# Altium footprint library Sinalização_Official.PcbLib: 12 footprints
Each footprint in its own frame and in the unit in brackets; x right, y up, seen from the top. Pads: shape width x height; smd on the part's side, far side on the other; paste and mask are expansions set on the pad; w line width, h text height; cw(c..) or ccw(c..) is an arc to the next point about the centre after c.
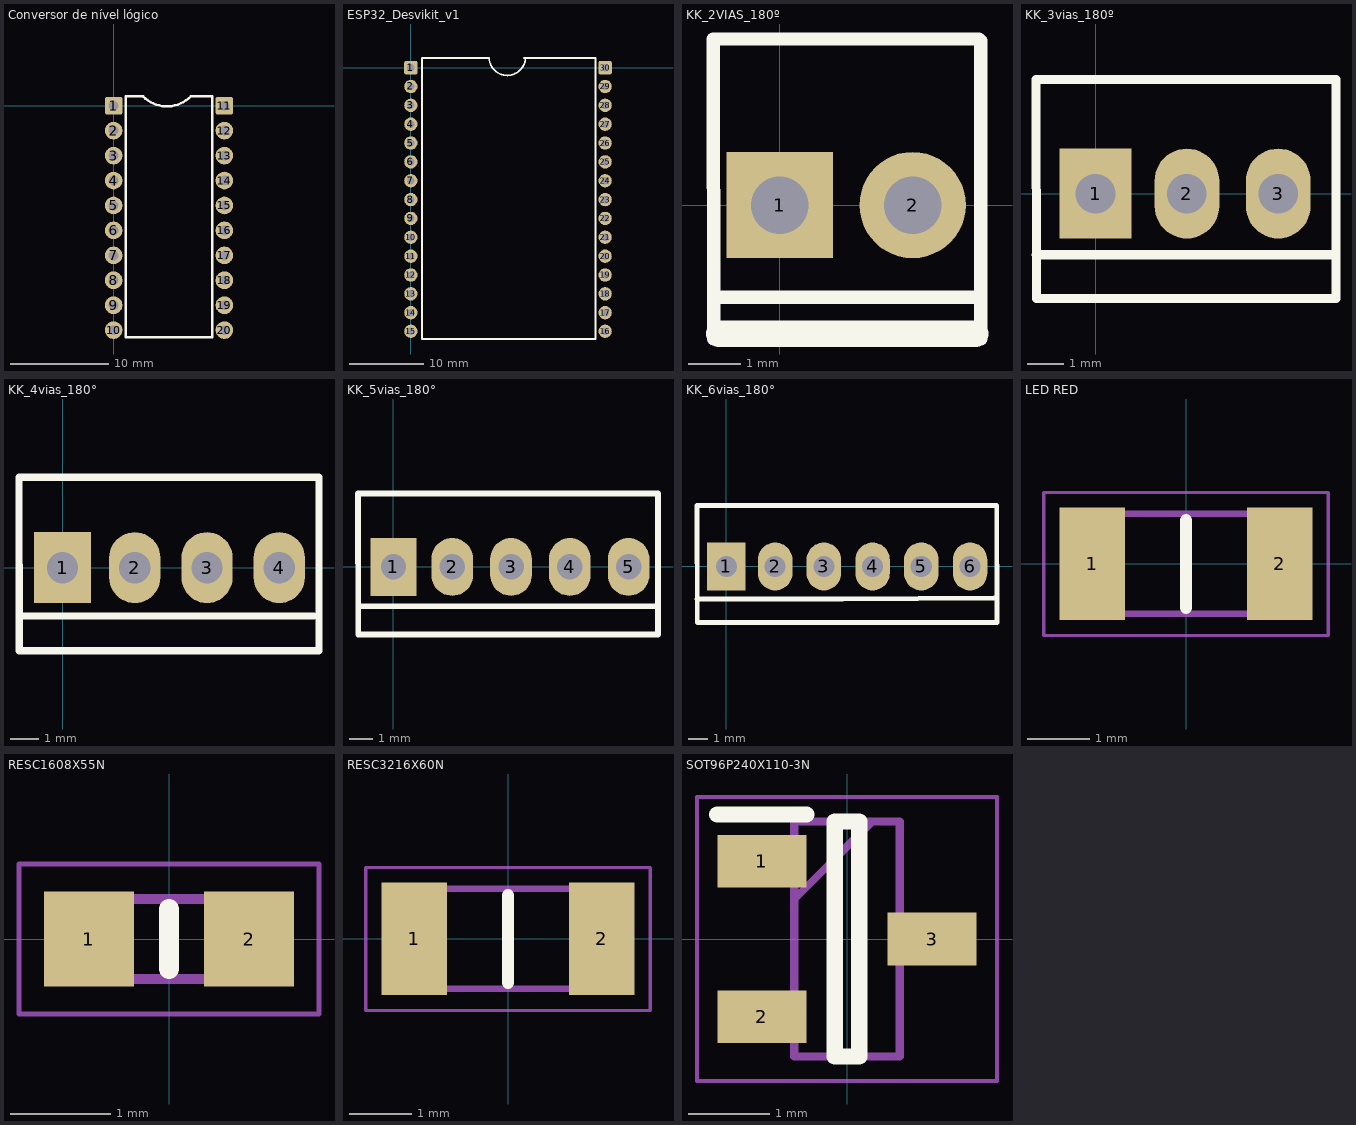
[diagram p0: the footprints below, top view; thin cyan lines are the x and y axes]

## Conversor de nível lógico [mm] "3V3 para 5V"
pads (20):
  rrect25% 1.8x1.8 hole 1: 1(-0.025,0) 11(11.25,0)
  round 1.8 hole 1: 2(-0.025,-2.54) 3(-0.025,-5.08) 4(-0.025,-7.62) 5(-0.025,-10.16) 6(-0.025,-12.7) 7(-0.025,-15.24) 8(-0.025,-17.78) 9(-0.025,-20.32) 10(-0.025,-22.86) 12(11.25,-2.54) 13(11.25,-5.08) 14(11.25,-7.62) 15(11.25,-10.16) 16(11.25,-12.7) 17(11.25,-15.24) 18(11.25,-17.78) 19(11.25,-20.32) 20(11.25,-22.86)
Top Overlay:
  lines w0.254: 1.2,-23.56 10.025,-23.56 10.025,0.94 7.825,0.94 cw(c5.4,3.365) 2.975,0.94 1.2,0.94 1.2,-23.56
3D body "User Library-Header_Fem_1X10.STEP": height 8.5, standoff -3.2, extent 9.925,-24.4 12.465,1.5
3D body "User Library-Header_Fem_1X10.STEP": height 8.5, standoff -3.2, extent -1.25,-24.375 1.29,1.525
3D body "Logic Level Converter 8 Channel.step": height 10.56, standoff 8.3, extent -2.411,-24.557 13.589,1.443

## ESP32_Desvikit_v1 [mm]
pads (30):
  rrect25% 1.8x1.8 hole 1: 1(0,0) 30(26.175,0)
  round 1.8 hole 1: 2(0,-2.54) 3(0,-5.08) 4(0,-7.62) 5(0,-10.16) 6(0,-12.7) 7(0,-15.24) 8(0,-17.78) 9(0,-20.32) 10(0,-22.86) 11(0,-25.4) 12(0,-27.94) 13(0,-30.48) 14(0,-33.02) 15(0,-35.52) 16(26.175,-35.52) 17(26.175,-33.02) 18(26.175,-30.48) 19(26.175,-27.94) 20(26.175,-25.4) 21(26.175,-22.86) 22(26.175,-20.32) 23(26.175,-17.78) 24(26.175,-15.24) 25(26.175,-12.7) 26(26.175,-10.16) 27(26.175,-7.62) 28(26.175,-5.08) 29(26.175,-2.54)
Top Overlay:
  lines w0.254: 10.539,1.279 1.475,1.279 1.475,-36.567 24.9,-36.567 24.9,1.279 ; 10.539,1.289 ccw(c12.989,1.406) 15.44,1.308 ; 15.21,1.279 24.862,1.279 ; 15.469,1.279 15.91,1.279
3D body "User Library-ESP32-DOIT-V1.STEP": height 16.2, standoff 3.8, extent -1.175,-46.065 27.325,4.865
3D body "Header_Female.STEP": height 8.4, standoff -3.15, extent -1.2,-36.62 1.3,-23.92
3D body "Header_Female.STEP": height 8.4, standoff -3.15, extent -1.2,-24.12 1.3,-11.42
3D body "Header_Female.STEP": height 8.4, standoff -3.15, extent -1.2,-11.67 1.3,1.03
3D body "Header_Female.STEP": height 8.4, standoff -3.15, extent 24.975,-36.62 27.475,-23.92
3D body "Header_Female.STEP": height 8.4, standoff -3.15, extent 24.975,-24.12 27.475,-11.42
3D body "Header_Female.STEP": height 8.4, standoff -3.15, extent 24.975,-11.67 27.475,1.03

## KK_2VIAS_180º [mil] "Header KK 2pin"
pads (2):
  rect 80x80 hole 43.31: 1(0,0)
  round 80 hole 43.31: 2(100,0)
Top Overlay:
  lines w10: -49.66,-69.44 149.76,-69.44 ; -49.61,-100.79 -50,125 150,125 ; 151.18,-100.79 151.18,123.62
  lines w19.68: -45.67,-96.85 147.24,-96.85
3D body "User Library-Molex 2 pines.STEP": height 464.21, standoff -137.44, extent -61.38,-108.11 165,128.11

## KK_3vias_180º [mm] "Header KK 3 pin"
pads (3):
  rect 2x2.5 hole 1.1: 1(0,0)
  oval 1.8x2.5 hole 1.1: 2(2.54,0) 3(5.08,0)
Top Overlay:
  lines w0.254: -1.651,-1.7 6.685,-1.7 ; -1.655,3.175 -1.644,-2.921 6.685,-2.921 6.685,3.175 -1.655,3.175
3D body "User Library-Molex 3 pines.step": height 11.9, standoff -3.38, extent -1.605,-2.952 6.685,3.048

## KK_4vias_180° [mm] "Header KK 4 pin"
pads (4):
  rect 2x2.5 hole 1.1: 1(0,0)
  oval 1.8x2.5 hole 1.1: 2(2.54,0) 3(5.08,0) 4(7.62,0)
Top Overlay:
  lines w0.254: -1.524,-1.7 6.05,-1.7 8.841,-1.7 ; -1.534,3.175 -1.523,-2.921 6.685,-2.921 9.017,-2.921 9.017,-2.667 9.017,3.175 6.685,3.175 -1.534,3.175
3D body "KK_2.54_4VIAS.stp": height 10.12, standoff -5.14, extent -1.397,-2.794 8.763,3.006

## KK_5vias_180° [mm] "Header KK 5 pin"
pads (5):
  rect 2x2.5 hole 1.1: 1(0,0)
  oval 1.8x2.5 hole 1.1: 2(2.54,0) 3(5.08,0) 4(7.62,0) 5(10.16,0)
Top Overlay:
  lines w0.254: -1.524,-1.7 6.05,-1.7 11.303,-1.7 ; -1.534,3.175 6.685,3.175 11.43,3.175 11.43,-2.921 9.017,-2.921 6.685,-2.921 -1.523,-2.921 -1.534,3.175
3D body "KK_2.54_5VIAS.stp": height 10.12, standoff -5.14, extent -1.397,-2.794 11.303,3.006

## KK_6vias_180° [mm]
pads (6):
  rect 2x2.5 hole 1.1: 1(0,0)
  oval 1.8x2.5 hole 1.1: 2(2.54,0) 3(5.08,0) 4(7.62,0) 5(10.16,0) 6(12.7,0)
Top Overlay:
  lines w0.254: -1.524,-1.7 6.05,-1.7 13.97,-1.642 ; 14.097,-2.921 9.017,-2.921 6.685,-2.921 -1.523,-2.921 -1.534,3.175 6.685,3.175 14.096,3.175 14.107,-2.921
3D body "User Library-molex kk 0_1in latching 6 way vertical header.STEP": height 10.1, standoff -5.14, extent -1.397,-2.794 13.843,3.048

## LED RED [mm]
pads (2):
  rect 1.05x1.8 smd: 1(-1.5,0) 2(1.5,0)
Top Overlay:
  lines w0.2: 0,-0.7 0,0.7
Mechanical 13:
  lines w0.1: -1.575,-0.8 -1.575,0.8 1.575,0.8 1.575,-0.8 -1.575,-0.8
Mechanical 15:
  lines w0.05: -2.275,-1.15 2.275,-1.15 2.275,1.143 2.032,1.143 1.137,1.143 -1.138,1.143 -2.032,1.143 -2.275,1.143 -2.275,-1.15
3D body "LED 0603 APT1608 RED.STEP": height 0.75, standoff 0, extent -0.787,-0.425 0.813,0.375

## PCBComponent_1 [mm]

## RESC1608X55N [mm]
pads (2):
  rect 0.9x0.95 smd: 1(-0.8,0) 2(0.8,0)
Top Overlay:
  lines w0.2: 0,-0.3 0,0.3
Mechanical 13:
  lines w0.1: -0.8,-0.4 -0.8,0.4 0.8,0.4 0.8,-0.4 -0.8,-0.4
Mechanical 15:
  lines w0.05: -1.5,-0.75 -1.5,0.75 1.5,0.75 1.5,-0.75 -1.5,-0.75
3D body "CR0603-FX-1210ELF.stp": height 0.55, standoff 0, extent -0.8,-0.4 0.8,0.4

## RESC3216X60N [mm]
pads (2):
  rect 1.05x1.8 smd: 1(-1.5,0) 2(1.5,0)
Top Overlay:
  lines w0.2: 0,-0.7 0,0.7
Mechanical 13:
  lines w0.1: -1.575,-0.8 -1.575,0.8 1.575,0.8 1.575,-0.8 -1.575,-0.8
Mechanical 15:
  lines w0.05: -2.275,-1.15 2.275,-1.15 2.275,1.143 2.032,1.143 1.137,1.143 -1.138,1.143 -2.032,1.143 -2.275,1.143 -2.275,-1.15
3D body "CRCW12064K70FKEA.stp": height 0.6, standoff 0, extent -1.575,-0.8 1.575,0.8

## SOT96P240X110-3N [mm]
pads (3):
  rect 1.1x0.65 smd: 1(-1.05,0.96) 2(-1.05,-0.96) 3(1.05,0)
Top Overlay:
  lines w0.2: -1.6,1.535 -0.5,1.535 ; -0.15,-1.45 -0.15,1.45 0.15,1.45 0.15,-1.45 -0.15,-1.45
Mechanical 13:
  lines w0.1: -0.65,0.49 0.31,1.45 ; -0.65,-1.45 -0.65,1.45 0.65,1.45 0.65,-1.45 -0.65,-1.45
Mechanical 15:
  lines w0.05: -1.85,-1.75 -1.85,1.75 1.85,1.75 1.85,-1.75 -1.85,-1.75
3D body "BC817-25-7-F.stp": height 1.1, standoff 0, extent -1.2,-1.45 1.2,1.45